# EAGLE library part ZB2430 (library PEGMA)
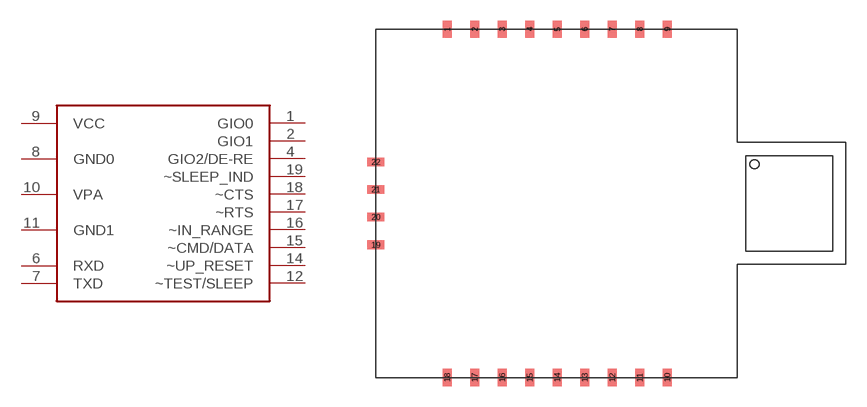
[diagram p11: symbol with the pads of ZB2430; footprint ZB2430]

Designator prefix -

## ZB2430  [ZB2430]
1  GIO0
2  GIO1
4  GIO2/DE-RE
6  RXD
7  TXD
8  GND0
9  VCC
10  VPA
11  GND1
12  ~TEST/SLEEP
14  ~UP_RESET
15  ~CMD/DATA
16  ~IN_RANGE
17  ~RTS
18  ~CTS
19  ~SLEEP_IND

## Footprint ZB2430 (pad centres in mm)
smd 0.635 x 1.27: 1 -7.493,12.7; 2 -5.486,12.7; 3 -3.48,12.7; 4 -1.473,12.7; 5 0.533,12.7; 6 2.54,12.7; 7 4.547,12.7; 8 6.553,12.7; 9 8.56,12.7; 10 8.56,-12.7; 11 6.553,-12.7; 12 4.547,-12.7; 13 2.54,-12.7; 14 0.533,-12.7; 15 -1.473,-12.7; 16 -3.48,-12.7; 17 -5.486,-12.7; 18 -7.493,-12.7
smd 1.27 x 0.635: 19 -12.7,-3.023; 20 -12.7,-0.991; 21 -12.7,1.016; 22 -12.7,3.023